# EAGLE library part MICRO_SD_BREAKOUT (library Other)
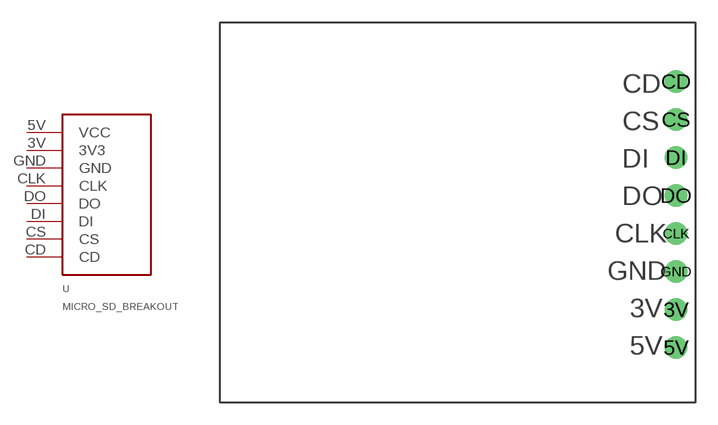
[diagram p1: symbol with the pads of MICRO_SD_BREAKOUT; footprint MICRO_SD_BREAKOUT]

Designator prefix U

## MICRO_SD_BREAKOUT  [MICRO_SD_BREAKOUT]
3V  3V3
5V  VCC
CD  CD
CLK  CLK
CS  CS
DI  DI
DO  DO
GND  GND

## Footprint MICRO_SD_BREAKOUT (pad centres in mm)
drill 1: 3V 14.605,-6.477; 5V 14.605,-9.017; CD 14.605,8.763; CLK 14.605,-1.397; CS 14.605,6.223; DI 14.605,3.683; DO 14.605,1.143; GND 14.605,-3.937